# Altium schematic symbol library VNH5019_USST.SchLib: 2 symbols
Pins are listed as number, name and electrical type; pins without a type are passive.

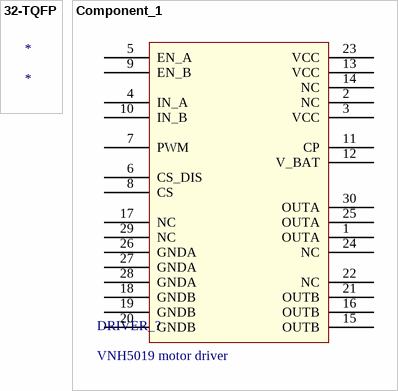
[diagram p0: symbols 32-TQFP to Component_1]

## 32-TQFP
designator *

## Component_1
designator DRIVER_?, comment VNH5019 motor driver
Motor driver
footprint VNH5019_USST (VNH5019 motor driver)
pins: 1 OUTA, 2 NC, 3 VCC, 4 IN_A, 5 EN_A, 6 CS_DIS, 7 PWM, 8 CS, 9 EN_B, 10 IN_B, 11 CP, 12 V_BAT, 13 VCC, 14 NC, 15 OUTB, 16 OUTB, 17 NC, 18 GNDB, 19 GNDB, 20 GNDB, 21 OUTB, 22 NC, 23 VCC, 24 NC, 25 OUTA, 26 GNDA, 27 GNDA, 28 GNDA, 29 NC, 30 OUTA